# EAGLE library part ICN2027 (library blinkinlabs)
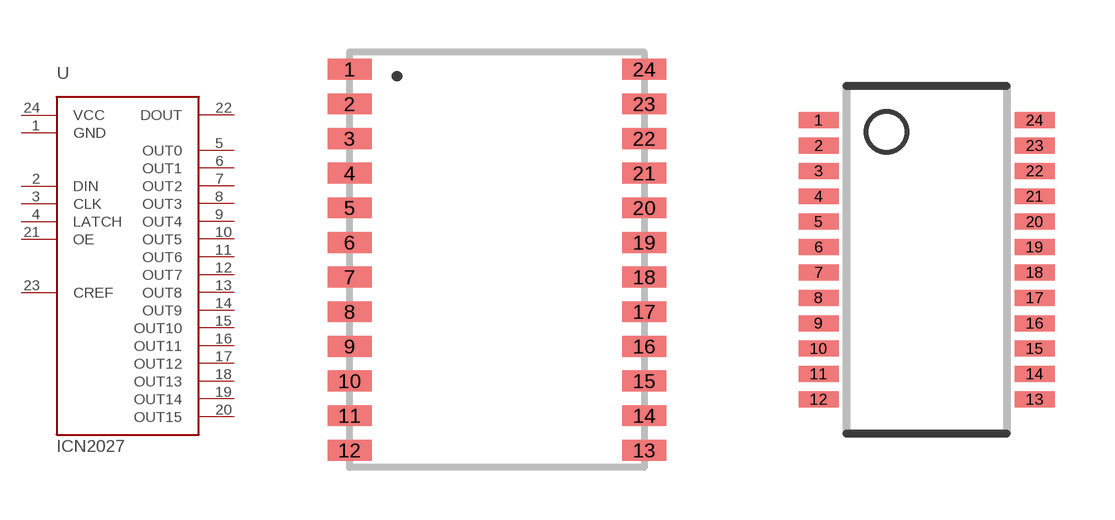
[diagram p20: symbol with the pads of SOP24-300-1MM; footprints SOP24-300-1MM, SSOP24-150]

Designator prefix -

## ICN2027SOP24-300  [SOP24-300-1MM]
1  GND
2  DIN
3  CLK
4  LATCH
5  OUT0
6  OUT1
7  OUT2
8  OUT3
9  OUT4
10  OUT5
11  OUT6
12  OUT7
13  OUT8
14  OUT9
15  OUT10
16  OUT11
17  OUT12
18  OUT13
19  OUT14
20  OUT15
21  OE
22  DOUT
23  CREF
24  VCC

## ICN2027SSOP24-150  [SSOP24-150]
Pads as for SOP24-300-1MM

## Footprint SOP24-300-1MM (pad centres in mm)
smd 1.27 x 0.6: 1 -4.25,5.5; 2 -4.25,4.5; 3 -4.25,3.5; 4 -4.25,2.5; 5 -4.25,1.5; 6 -4.25,0.5; 7 -4.25,-0.5; 8 -4.25,-1.5; 9 -4.25,-2.5; 10 -4.25,-3.5; 11 -4.25,-4.5; 12 -4.25,-5.5; 13 4.25,-5.5; 14 4.25,-4.5; 15 4.25,-3.5; 16 4.25,-2.5; 17 4.25,-1.5; 18 4.25,-0.5; 19 4.25,0.5; 20 4.25,1.5; 21 4.25,2.5; 22 4.25,3.5; 23 4.25,4.5; 24 4.25,5.5

## Footprint SSOP24-150 (pad centres in mm)
smd 1 x 0.4: 1 -2.7,3.493; 2 -2.7,2.857; 3 -2.7,2.223; 4 -2.7,1.587; 5 -2.7,0.953; 6 -2.7,0.318; 7 -2.7,-0.318; 8 -2.7,-0.953; 9 -2.7,-1.587; 10 -2.7,-2.223; 11 -2.7,-2.857; 12 -2.7,-3.493; 13 2.7,-3.493; 14 2.7,-2.857; 15 2.7,-2.223; 16 2.7,-1.587; 17 2.7,-0.953; 18 2.7,-0.318; 19 2.7,0.318; 20 2.7,0.953; 21 2.7,1.587; 22 2.7,2.223; 23 2.7,2.857; 24 2.7,3.493